# Altium schematic symbol library Cap.SchLib: 34 symbols (part 1 of 2)
Pins are listed as number, name and electrical type; pins without a type are passive.

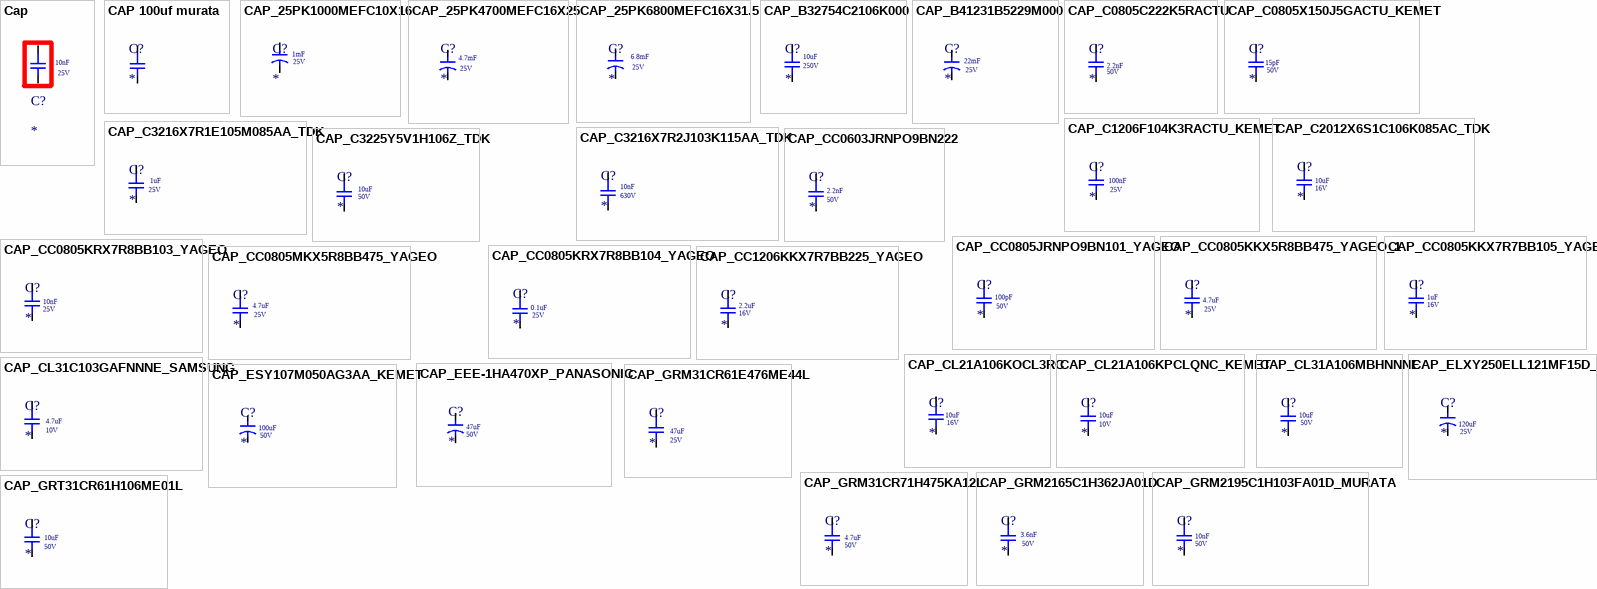
[diagram p0: symbols Cap to CAP_GRT31CR61H106ME01L]

## Cap
designator C?  Voltage Rating: 25V  Capacitance: 10nF
Cap Ceramic 0.01uF 25V C0G 2% SMD 1206 125C Embossed T/R; Manufacturer 1: Samsung; Manufacturer Part Number 1: CL31C103GAFNNNE; Supplier 1: Digi-Key; Stock 1: 0; RoHS: Yes; Mount: Surface Mount; Case/Package: 1206; Case Code (Metric): 3216; Case Code (Imperial): 1206; Min Operating Temperature: -55°C; Max Operating Temperature: 125°C; Tolerance: 2%; Dielectric: C0G; Package Quantity: 1; Packaging: Tape and Reel; Series: CL; Construction: Flat; Voltage Rating (DC): 25V; Length: 3.2mm; Width: 0.063inch; Height: 1.25mm; Depth: 1.6mm; Thickness: 0.055inch; Radiation Hardening: No; RoHS Compliant: Yes; ComponentLink1URL: https://datasheet.ciiva.com/25724/cl31c103gafnnne-25724433.pdf?src-supplier=Digi-Key; ComponentLink1Description: https://datasheet.ciiva.com/25724/cl31c103gafnnne-25724433.pdf?src-supplier=Digi-Key; ComponentLink2URL: https://datasheet.ciiva.com/26838/getdatasheetpartid-358463-26838999.pdf?src-supplier=Verical; ComponentLink2Description: https://datasheet.ciiva.com/26838/getdatasheetpartid-358463-26838999.pdf?src-supplier=Verical; Supplier Part Number 1: 1276-3210-2-ND
footprint cap smd 1206
pins: 22, 23

## CAP 100uf murata
designator C?
footprint Cap 100uf (0805)
pins: 22, 22

## CAP_25PK1000MEFC10X16
designator C?  Voltage: 25V  Capacitance: 1mF
CAP ALUM 1000UF 20% 25V RADIAL; Manufacturer 1: Rubycon; Manufacturer Part Number 1: 25PK1000MEFC10X16; Ripple Current: 870mA; Leakage Current: 3uA; Life (Hours): 2000Hour; Lead Diameter: 0.6mm; Supplier 1: Digi-Key; Stock 1: 1627; Pricing 1: 1=0,59000, 10=0,41900, 50=0,31700, 100=0,27600, 500=0,20448, 1000=0,17380, 2500=0,16358, 5000=0,15335 (USD); RoHS: Yes; Mount: Through Hole; Case/Package: Radial; Number of Pins: 2; Min Operating Temperature: -40°C; Max Operating Temperature: 85°C; Tolerance: 20%; Termination: Radial; Package Quantity: 1000; Voltage Rating: 25V; Packaging: Bulk; Voltage Rating (DC): 25V; Series: PK; Construction: RADIAL; Diameter: 10mm; Height: 16mm; Lead Pitch: 5mm; Height - Seated (Max): 0.689inch; Radiation Hardening: No; REACH SVHC: Unknown; RoHS Compliant: Yes; ComponentLink1URL: https://datasheet.ciiva.com/25614/0900766b810f8819-25614293.pdf?src-supplier=RSComponents; ComponentLink1Description: https://datasheet.ciiva.com/25614/0900766b810f8819-25614293.pdf?src-supplier=RSComponents; ComponentLink2URL: https://datasheet.ciiva.com/6328/e-pk-6328392.pdf?src-supplier=Digi-Key; ComponentLink2Description: https://datasheet.ciiva.com/6328/e-pk-6328392.pdf?src-supplier=Digi-Key; ComponentLink3URL: https://datasheet.ciiva.com/17514/e-pk-17514519.pdf?src-supplier=Avnet+Europe; ComponentLink3Description: https://datasheet.ciiva.com/17514/e-pk-17514519.pdf?src-supplier=Avnet+Europe; Supplier Part Number 1: 1189-1217-ND
footprint Cap 10x16
pins: 24, 25

## CAP_25PK4700MEFC16X25
designator C?  Voltage: 25V  Capacitance: 4.7mF
CAP, ALU ELEC, 4700UF, 25V, RAD; Product Range:PK Series; Capacitance:4700µF; Capacitance Tolerance:± 20%; Voltage Rating:25V; Diameter:16mm; Capacitor Terminals:Radial Leaded; Packaging:Each; ESR:-; Height:25mm; Lead Spacing:7.5mm; Lifetime @ Temperature:2000 hours @ 85°C; Operating Temperature Min:-40°C; Operating Temperature Max:85°C; Capacitance Tolerance ±:± 20%; Ripple Current AC:2120mA; Manufacturer 1: Rubycon; Manufacturer Part Number 1: 25PK4700MEFC16X25; Ripple Current: 2.12A; Leakage Current: 3uA; Lead Diameter: 0.8mm; Supplier 1: Digi-Key; Stock 1: 5906; Pricing 1: 1=1,45000, 10=1,14500, 50=0,99240, 100=0,85880, 500=0,64886, 1000=0,57253, 2500=0,53436, 5000=0,51527 (USD); RoHS: Yes; Mount: Through Hole; Case/Package: Radial; Number of Pins: 2; Min Operating Temperature: -40°C; Max Operating Temperature: 85°C; Tolerance: 20%; Termination: Radial; Voltage Rating: 25V; Ripple Current (AC): 2.12A; Package Quantity: 600; Packaging: Bulk; Life (Hours): 2000Hour; Voltage Rating (DC): 25V; Series: PK; Construction: RADIAL; Diameter: 16mm; Height: 25mm; Lead Pitch: 7.5mm; Height - Seated (Max): 1.063inch; Radiation Hardening: No; REACH SVHC: Unknown; RoHS Compliant: Yes; ComponentLink1URL: https://datasheet.ciiva.com/25614/0900766b810f8819-25614291.pdf?src-supplier=RSComponents; ComponentLink1Description: https://datasheet.ciiva.com/25614/0900766b810f8819-25614291.pdf?src-supplier=RSComponents; ComponentLink2URL: https://datasheet.ciiva.com/6312/e-pk-6312270.pdf?src-supplier=Digi-Key; ComponentLink2Description: https://datasheet.ciiva.com/6312/e-pk-6312270.pdf?src-supplier=Digi-Key; Supplier Part Number 1: 1189-1732-ND
footprint Cap 16x25
pins: 24, 25

## CAP_25PK6800MEFC16X31.5
designator C?  Voltage Rating: 25V  Capacitance: 6.8mF
CAP, ALU ELEC, 6800UF, 25V, RAD; Product Range:RUBYCON - PK Series; Capacitance:6800µF; Capacitance Tolerance:± 20%; Voltage Rating:25V; Diameter:16mm; ESR:-; Height:31.5mm; Capacitor Terminals:Radial Leaded; Lead Spacing:7.5mm; ;RoHS Compliant: Yes; Manufacturer Part Number 1: 25PK6800MEFC16X31.5; Ripple Current: 2.44A; Life (Hours): 2000Hour; Polarity: Polar; Supplier 1: Mouser; Manufacturer 1: Rubycon; Stock 1: 34; Pricing 1: 1=2,10000, 10=1,49000, 50=1,49000, 100=1,30000, 1000=0,86500, 10000=0,83400 (USD); RoHS: Yes; Mount: Through Hole; Case/Package: Radial; Number of Pins: 2; Min Operating Temperature: -40°C; Max Operating Temperature: 85°C; Tolerance: 20%; Termination: Radial; Ripple Current (AC): 2.44A; Package Quantity: 200; Packaging: Bulk; Voltage Rating (DC): 25V; Series: PK; Diameter: 16mm; Height: 31.5mm; Lead Pitch: 7.5mm; Height - Seated (Max): 1.299inch; Radiation Hardening: No; REACH SVHC: Unknown; ComponentLink1URL: https://datasheet.ciiva.com/11692/e-pk-11692263.pdf?src-supplier=Avnet; ComponentLink1Description: https://datasheet.ciiva.com/11692/e-pk-11692263.pdf?src-supplier=Avnet; ComponentLink2URL: https://datasheet.ciiva.com/17514/e-pk-17514538.pdf?src-supplier=Avnet+Europe; ComponentLink2Description: https://datasheet.ciiva.com/17514/e-pk-17514538.pdf?src-supplier=Avnet+Europe; Supplier Part Number 1: 232-25PK6800MEFC16X3
footprint Cap 16x31.5
pins: 24, 25

## CAP_B32754C2106K000
designator C?  Voltage Rating (AC): 250V  Capacitance: 10uF
Cap Film 10uF 500V PP 10% (31.5 X 22 X 36.5mm) Dipped Radial 27.5mm 105°C Bulk; Manufacturer 1: TDK EPCOS; Manufacturer Part Number 1: B32754C2106K000; ESR (Equivalent Series Resistance): 4.2mR; Supplier 1: Digi-Key; Stock 1: 0; Pricing 1: 1=5,13000, 10=4,62000, 50=4,00380, 100=3,49040, 500=2,87448, 1000=2,66916, 2500=2,61783 (USD); RoHS: No; Mount: Through Hole; Case/Package: Radial; Dielectric Material: PP; Min Operating Temperature: -40°C; Max Operating Temperature: 105°C; Packaging: Bulk; Tolerance: 10%; Voltage Rating (DC): 500V; Termination: PC Pins; RoHS Compliant: No; ComponentLink1URL: https://en.tdk.eu/inf/20/20/ds/MKP_B32754_758.pdf?src-supplier=Digi-Key; ComponentLink1Description: https://en.tdk.eu/inf/20/20/ds/MKP_B32754_758.pdf?src-supplier=Digi-Key; Supplier Part Number 1: 495-76101-ND
footprint Cap 22x36.5x31.5
pins: 22, 23

## CAP_B41231B5229M000
designator C?  Voltage Rating: 25V  Capacitance: 22mF
Cap Aluminum Lytic 22000uF 25V 20% (35 X 30mm) Snap-In 10mm 5510mA 2000h 85C Bulk; Manufacturer 1: TDK EPCOS; Manufacturer Part Number 1: B41231B5229M000; Dielectric Material: Aluminium; Ripple Current: 5.51A; Life (Hours): 2000Hour; Dissipation Factor: 0.4%; Test Frequency: 120Hz; Lead Diameter: 0.8mm; Supplier 1: Digi-Key; Stock 1: 189; Pricing 1: 1=3,89000, 10=3,13900, 50=2,69980, 100=2,44860, 500=1,82076, 1000=1,69519, 2500=1,63240, 5000=1,60101 (USD); RoHS: Yes; Mount: Through Hole; Case/Package: Aluminum; Number of Pins: 2; Contact Plating: Tin; Min Operating Temperature: -40°C; Max Operating Temperature: 85°C; Tolerance: 20%; Packaging: Bulk; Package Quantity: 60; Voltage Rating (DC): 25V; Termination: Snap in; Series: B41231; Diameter: 35mm; Length: 45mm; Height: 30mm; Lead Pitch: 10mm; REACH SVHC: No SVHC; ComponentLink1URL: http://www.farnell.com/datasheets/2130718.pdf?src-supplier=Farnell; ComponentLink1Description: http://www.farnell.com/datasheets/2130718.pdf?src-supplier=Farnell; ComponentLink2URL: http://components.arrow.com/part/dataview/0323_01877614?src-supplier=Arrow+Europe; ComponentLink2Description: http://components.arrow.com/part/dataview/0323_01877614?src-supplier=Arrow+Europe; ComponentLink3URL: http://www.epcos.com/inf/20/30/db/aec_2011/B41231.pdf?src-supplier=Avnet; ComponentLink3Description: http://www.epcos.com/inf/20/30/db/aec_2011/B41231.pdf?src-supplier=Avnet; ComponentLink4URL: http://www.farnell.com/datasheets/1884917.pdf?src-supplier=Element14; ComponentLink4Description: http://www.farnell.com/datasheets/1884917.pdf?src-supplier=Element14; ComponentLink5URL: http://en.tdk.eu/inf/20/30/db/aec_2015/B41252.pdf?src-supplier=Mouser; ComponentLink5Description: http://en.tdk.eu/inf/20/30/db/aec_2015/B41252.pdf?src-supplier=Mouser; Supplier Part Number 1: 495-6159-ND
pins: 24, 25

## CAP_C0805C222K5RACTU
designator C?  Voltage: 50V  Capacitance: 2.2nF
Cap Ceramic 0.0022uF 50V X7R 10% SMD 0805 125°C Paper T/R; Manufacturer 1: KEMET; Manufacturer Part Number 1: C0805C222K5RACTU; Dissipation Factor: 2.5%; Supplier 1: Digi-Key; Stock 1: 26149; Pricing 1: 1=0,10000, 10=0,05400, 50=0,02960, 100=0,02420, 500=0,01730, 1000=0,01360 (USD); RoHS: Yes; Mount: Surface Mount,PCB; Case/Package: 0805; Number of Pins: 2; Dielectric Material: Ceramic; Case Code (Imperial): 0805; Case Code (Metric): 2012; Min Operating Temperature: -55°C; Max Operating Temperature: 125°C; Tolerance: 10%; Packaging: Tape and Reel; Dielectric: X7R; Voltage Rating (DC): 50V; Package Quantity: 1; Series: C; Voltage Rating: 50V; Termination: SMD/SMT; Construction: Flat; Length: 2mm; Width: 0.049inch; Height: 0.78mm; Depth: 1.25mm; Lead Pitch: 0.75mm; Thickness: 0.035inch; Radiation Hardening: No; RoHS Compliant: Yes; REACH SVHC: No SVHC; ComponentLink1URL: https://datasheet.ciiva.com/28584/kem-c1002-x7r-smd-28584143.pdf?src-supplier=Element14; ComponentLink1Description: https://datasheet.ciiva.com/28584/kem-c1002-x7r-smd-28584143.pdf?src-supplier=Element14; ComponentLink2URL: https://datasheet.ciiva.com/28692/1851736-28692973.pdf?src-supplier=Element14; ComponentLink2Description: https://datasheet.ciiva.com/28692/1851736-28692973.pdf?src-supplier=Element14; Supplier Part Number 1: 399-1151-1-ND
footprint CAP smd 0805
pins: 22, 23

## CAP_C0805X150J5GACTU_KEMET
designator C?  Voltage Rating: 50V  Capacitance: 15pF
Multilayer Ceramic Capacitors MLCC - SMD/SMT 50volts 15pF 5% C0G; Manufacturer 1: KEMET; Manufacturer Part Number 1: C0805X150J5GACTU; Supplier 1: Digi-Key; Stock 1: 2348; Pricing 1: 1=0,33000, 10=0,23100, 50=0,16160, 100=0,13860, 500=0,10396, 1000=0,08778 (USD); RoHS: Yes; Mount: Surface Mount; Case/Package: 0805; Case Code (Imperial): 0805; Case Code (Metric): 2012; Dielectric Material: Ceramic; Min Operating Temperature: -55°C; Max Operating Temperature: 125°C; Package Quantity: 4000; Voltage Rating (DC): 50V; Tolerance: 5%; Packaging: Tape and Reel; Dielectric: C0G; Termination: SMD/SMT; Series: FT-CAP; Features: Soft Termination; Construction: Flat; Length: 0.083inch; Width: 1.25mm; Height: 0.78mm; Thickness: 0.035inch; Depth: 1.25mm; Radiation Hardening: No; RoHS Compliant: Yes; Lead Free: Lead Free; ComponentLink1URL: http://www.mouser.com/ds/2/212/KEM_C1062_C0G_FT-CAP_SMD-1101746.pdf?src-supplier=Mouser; ComponentLink1Description: http://www.mouser.com/ds/2/212/KEM_C1062_C0G_FT-CAP_SMD-1101746.pdf?src-supplier=Mouser; ComponentLink2URL: http://www.kemet.com/kemet/web/homepage/kechome.nsf/file/KEM_C1062_C0G_FT-CAP_SMD.pdf/$file/KEM_C1062_C0G_FT-CAP_SMD.pdf?src-supplier=Avnet; ComponentLink2Description: http://www.kemet.com/kemet/web/homepage/kechome.nsf/file/KEM_C1062_C0G_FT-CAP_SMD.pdf/$file/KEM_C1062_C0G_FT-CAP_SMD.pdf?src-supplier=Avnet; ComponentLink3URL: https://search.kemet.com/component-edge/download/specsheet/C0805X150J5GACTU.pdf?src-supplier=Digi-Key; ComponentLink3Description: https://search.kemet.com/component-edge/download/specsheet/C0805X150J5GACTU.pdf?src-supplier=Digi-Key; Supplier Part Number 1: 399-7428-1-ND
footprint CAP smd 0805
pins: 22, 23

## CAP_C1206F104K3RACTU_KEMET
designator C?  Voltage Rating: 25V  Capacitance: 100nF
KEMET - C1206F104K3RACTU - SMD Multilayer Ceramic Capacitor, FO-CAP, 0.1 µF, 25 V, 1206 [3216 Metric], ± 10%, X7R; Dissipation Factor: 3.5%; Supplier 1: Digi-Key; Manufacturer 1: KEMET; Manufacturer Part Number 1: C1206F104K3RACTU; Stock 1: 8493; Pricing 1: 1=0,52000, 10=0,35800, 50=0,25060, 100=0,21480, 500=0,16112, 1000=0,13606 (USD); RoHS: Yes; Mount: Surface Mount; Case/Package: 1206; Case Code (Imperial): 1206; Case Code (Metric): 3216; Dielectric Material: Ceramic; Min Operating Temperature: -55°C; Max Operating Temperature: 125°C; Dielectric: X7R; Tolerance: 10%; Packaging: Tape and Reel; Package Quantity: 1; Voltage Rating (DC): 25V; Termination: SMD/SMT; Series: FO-CAP; Length: 3.2mm; Width: 1.6mm; Height: 0.78mm; Thickness: 0.039inch; Depth: 1.6mm; REACH SVHC: No SVHC; RoHS Compliant: Yes; ComponentLink1URL: https://datasheet.ciiva.com/23928/1723859-23928960.pdf?src-supplier=Newark; ComponentLink1Description: https://datasheet.ciiva.com/23928/1723859-23928960.pdf?src-supplier=Newark; Supplier Part Number 1: 399-5615-1-ND
footprint cap smd 1206
pins: 22, 23

## CAP_C2012X6S1C106K085AC_TDK
designator C?  Voltage Rating: 16V  Capacitance: 10uF
Cap Ceramic 10uF 16V X6S 10% SMD 0805 105°C Punched Paper T/R; Manufacturer 1: TDK; Manufacturer Part Number 1: C2012X6S1C106K085AC; Supplier 1: Digi-Key; Stock 1: 6; Pricing 1: 1=0,30000, 10=0,20700, 50=0,13800, 100=0,11730, 500=0,08280, 1000=0,07245 (USD); RoHS: Yes; Mount: Surface Mount; Case/Package: 0805; Case Code (Metric): 2012; Case Code (Imperial): 0805; Dielectric Material: Ceramic; Min Operating Temperature: -55°C; Max Operating Temperature: 105°C; Package Quantity: 4000; Packaging: Tape and Reel; Tolerance: 10%; Voltage Rating (DC): 16V; Series: C; Length: 0.079inch; Width: 0.049inch; Thickness: 0.039inch; Lead Free: Lead Free; RoHS Compliant: Yes; ComponentLink1URL: https://datasheet.ciiva.com/14896/tdkmlcccaprange-14896965.pdf?src-supplier=Digi-Key; ComponentLink1Description: https://datasheet.ciiva.com/14896/tdkmlcccaprange-14896965.pdf?src-supplier=Digi-Key; Supplier Part Number 1: 445-14483-1-ND
footprint CAP smd 0805
pins: 22, 23

## CAP_C3216X7R1E105M085AA_TDK
designator C?  Voltage Rating: 25V  Capacitance: 1uF
CAP CER 1UF 25V X7R 1206; Manufacturer 1: TDK; Manufacturer Part Number 1: C3216X7R1E105M085AA; Dielectric Material: Ceramic; Tolerance: 20%; Supplier 1: Digi-Key; Stock 1: 5416; Pricing 1: 1=0,29000, 10=0,19900, 50=0,11960, 100=0,10090, 500=0,06906, 1000=0,06110 (USD); RoHS: Yes; Mount: Surface Mount; Case/Package: 1206; Number of Pins: 2; Case Code (Metric): 3216; Case Code (Imperial): 1206; Weight: 0.000571oz; Min Operating Temperature: -55°C; Max Operating Temperature: 125°C; Packaging: Tape and Reel; Package Quantity: 1; Voltage Rating (DC): 25V; Dielectric: X7R; Termination: SMD/SMT; Series: C; Resistor Type: Ceramic; Length: 3.2mm; Width: 0.063inch; Height: 1.6mm; Depth: 1.6mm; Thickness: 0.039inch; Lead Free: Lead Free; RoHS Compliant: Yes; REACH SVHC: No SVHC; ComponentLink1URL: https://datasheet.ciiva.com/24217/c3216x7r1e105m085aa-265271-24217517.pdf?src-supplier=Mouser; ComponentLink1Description: https://datasheet.ciiva.com/24217/c3216x7r1e105m085aa-265271-24217517.pdf?src-supplier=Mouser; ComponentLink2URL: https://datasheet.ciiva.com/6291/tdkmlcccaprange-6291789.pdf?src-supplier=Digi-Key; ComponentLink2Description: https://datasheet.ciiva.com/6291/tdkmlcccaprange-6291789.pdf?src-supplier=Digi-Key; ComponentLink3URL: https://datasheet.ciiva.com/6291/tdkmlcccaprange-6291798.pdf?src-supplier=Digi-Key; ComponentLink3Description: https://datasheet.ciiva.com/6291/tdkmlcccaprange-6291798.pdf?src-supplier=Digi-Key; ComponentLink4URL: https://datasheet.ciiva.com/16482/e412-c-16482537.pdf?src-supplier=Future+Electronics; ComponentLink4Description: https://datasheet.ciiva.com/16482/e412-c-16482537.pdf?src-supplier=Future+Electronics; Supplier Part Number 1: 445-4024-1-ND
footprint cap smd 1206
pins: 22, 23

## CAP_C3216X7R2J103K115AA_TDK
designator C?  Voltage: 630V  Capacitance: 10nF
TDK         C3216X7R2J103K115AA            SMD Multilayer Ceramic Capacitor, C Series, 0.01 F,  10%, X7R, 630 V, 1206 [3216 Metric]; Supplier 1: Digi-Key; Manufacturer 1: TDK; Manufacturer Part Number 1: C3216X7R2J103K115AA; Stock 1: 141007; Pricing 1: 1=0,27000, 10=0,18200, 50=0,12140, 100=0,10320, 500=0,07286, 1000=0,06376 (USD); RoHS: Yes; Mount: Surface Mount; Case/Package: 1206; Number of Pins: 2; Case Code (Metric): 3216; Case Code (Imperial): 1206; Weight: 0.000571oz; Min Operating Temperature: -55°C; Max Operating Temperature: 125°C; Tolerance: 10%; Voltage Rating: 630V; Package Quantity: 1; Packaging: Tape and Reel; Voltage Rating (DC): 630V; Dielectric: X7R; Termination: SMD/SMT; Series: C; Resistor Type: Ceramic; Length: 3.2mm; Width: 1.6mm; Height: 1.15mm; Depth: 1.6mm; Thickness: 0.051inch; REACH SVHC: No SVHC; Lead Free: Lead Free; RoHS Compliant: Yes; ComponentLink1URL: https://datasheet.ciiva.com/24218/c3216x7r2j103k115aa-265245-24218566.pdf?src-supplier=Mouser; ComponentLink1Description: https://datasheet.ciiva.com/24218/c3216x7r2j103k115aa-265245-24218566.pdf?src-supplier=Mouser; ComponentLink2URL: https://datasheet.ciiva.com/11788/0900766b80fc5cba-11788216.pdf?src-supplier=RSComponents; ComponentLink2Description: https://datasheet.ciiva.com/11788/0900766b80fc5cba-11788216.pdf?src-supplier=RSComponents; ComponentLink3URL: https://datasheet.ciiva.com/16201/e413-c-16201696.pdf?src-supplier=Future+Electronics; ComponentLink3Description: https://datasheet.ciiva.com/16201/e413-c-16201696.pdf?src-supplier=Future+Electronics; Supplier Part Number 1: 445-2291-1-ND
footprint cap smd 1206
pins: 22, 23

## CAP_C3225Y5V1H106Z_TDK
designator C?  Voltage Rating: 50V  Capacitance: 10uF
CAP CER 10UF 50V Y5V 1210; Manufacturer 1: TDK; Manufacturer Part Number 1: C3225Y5V1H106Z; Tolerance: 80%; Supplier 1: Arrow Electronics; Stock 1: 0; RoHS: Yes; Mount: Surface Mount; Case/Package: 1210; Number of Pins: 2; Case Code (Metric): 3225; Case Code (Imperial): 1210; Min Operating Temperature: -30°C; Max Operating Temperature: 85°C; Packaging: Tape and Reel; Package Quantity: 1; Voltage Rating (DC): 50V; Dielectric: Y5V; Termination: SMD/SMT; Resistor Type: Ceramic; Series: C; Construction: Flat; Length: 3.2mm; Width: 0.098inch; Height: 1.6mm; Thickness: 0.071inch; Depth: 2.5mm; Radiation Hardening: No; REACH SVHC: Unknown; Lead Free: Lead Free; RoHS Compliant: Yes; ComponentLink1URL: https://datasheet.ciiva.com/157/c-series-generalappl-b11-157864.pdf?src-supplier=Digi-Key; ComponentLink1Description: https://datasheet.ciiva.com/157/c-series-generalappl-b11-157864.pdf?src-supplier=Digi-Key; ComponentLink2URL: https://datasheet.ciiva.com/157/c-series-generalappl-b11-157865.pdf?src-supplier=Digi-Key; ComponentLink2Description: https://datasheet.ciiva.com/157/c-series-generalappl-b11-157865.pdf?src-supplier=Digi-Key; ComponentLink3URL: https://datasheet.ciiva.com/157/c-series-generalappl-b11-157866.pdf?src-supplier=Digi-Key; ComponentLink3Description: https://datasheet.ciiva.com/157/c-series-generalappl-b11-157866.pdf?src-supplier=Digi-Key; ComponentLink4URL: https://datasheet.ciiva.com/11588/general-b11-11588955.pdf?src-supplier=Avnet; ComponentLink4Description: https://datasheet.ciiva.com/11588/general-b11-11588955.pdf?src-supplier=Avnet; ComponentLink5URL: https://datasheet.ciiva.com/6145/1571323-6145050.pdf?src-supplier=Farnell; ComponentLink5Description: https://datasheet.ciiva.com/6145/1571323-6145050.pdf?src-supplier=Farnell; ComponentLink6URL: https://datasheet.ciiva.com/15919/general-b11-15919370.pdf?src-supplier=Onlinecomponents.com; ComponentLink6Description: https://datasheet.ciiva.com/15919/general-b11-15919370.pdf?src-supplier=Onlinecomponents.com; ComponentLink7URL: https://datasheet.ciiva.com/16467/e413-c-16467975.pdf?src-supplier=Future+Electronics; ComponentLink7Description: https://datasheet.ciiva.com/16467/e413-c-16467975.pdf?src-supplier=Future+Electronics; ComponentLink8URL: https://datasheet.ciiva.com/15192/getdatasheetpartid-92437-15192346.pdf?src-supplier=Verical; ComponentLink8Description: https://datasheet.ciiva.com/15192/getdatasheetpartid-92437-15192346.pdf?src-supplier=Verical; Supplier Part Number 1: C3225Y5V1H106Z
footprint cap smd 1210
pins: 22, 23

## CAP_CC0603JRNPO9BN222
designator C?  Voltage Rating: 50V  Capacitance: 2.2nF
Multilayer Ceramic Capacitors MLCC - SMD/SMT 2.2nF 50V NPO 5%; Manufacturer 1: Yageo; Manufacturer Part Number 1: CC0603JRNPO9BN222; Dielectric: C0G; Supplier 1: Newark; Stock 1: 28000; Pricing 1: 1=0,02000, 4000=0,01900, 8000=0,01800 (USD); RoHS: Yes; Mount: Surface Mount; Case/Package: 0603; Case Code (Imperial): 0603; Case Code (Metric): 1608; Weight: 7.1E-05oz; Min Operating Temperature: -55°C; Max Operating Temperature: 125°C; Voltage Rating (DC): 50V; Tolerance: 5%; Packaging: Tape and Reel; Termination: SMD/SMT; Resistor Type: Ceramic; Series: CC; Length: 0.063inch; Width: 0.031inch; Thickness: 0.035inch; Depth: 0.8mm; RoHS Compliant: Yes; ComponentLink1URL: https://datasheet.ciiva.com/13264/upy-gp-np0-16v-to-50v-8-3714-13264909.pdf?src-supplier=Mouser; ComponentLink1Description: https://datasheet.ciiva.com/13264/upy-gp-np0-16v-to-50v-8-3714-13264909.pdf?src-supplier=Mouser; Supplier Part Number 1: 69AH7228
footprint cap smd 0603
pins: 22, 23

## CAP_CC0805JRNPO9BN101_YAGEO
designator C?  Voltage: 50V  Capacitance: 100pF
0805 100 pF 50 V ±5 % Tolerance NP0 SMT Multilayer Ceramic Capacitor; Manufacturer 1: Yageo; Manufacturer Part Number 1: CC0805JRNPO9BN101; Tolerance: 5%; Dielectric: C0G; Temperature Coefficient: 30ppm/°C; Insulation Resistance: 100GR; Supplier 1: RSComponents; Stock 1: 2750; Pricing 1: 1000=0,01600, 2000=0,01400 (GBP); RoHS: Yes; Mount: Surface Mount; Case/Package: 0805; Number of Pins: 2; Case Code (Imperial): 0805; Case Code (Metric): 2012; Dielectric Material: Ceramic; Min Operating Temperature: -55°C; Max Operating Temperature: 125°C; Packaging: Tape and Reel; Voltage Rating: 50V; Package Quantity: 1; Voltage Rating (DC): 50V; Termination: SMD/SMT; Resistor Type: Ceramic; Series: CC; Length: 2mm; Width: 1.25mm; Height: 0.6mm; Depth: 1.25mm; Thickness: 0.024inch; Radiation Hardening: No; RoHS Compliant: Yes; REACH SVHC: No SVHC; Lead Free: Lead Free; ComponentLink1URL: https://datasheet.ciiva.com/5425/upy-gp-np0-16v-to-50v-8-217813-5425504.pdf?src-supplier=Mouser; ComponentLink1Description: https://datasheet.ciiva.com/5425/upy-gp-np0-16v-to-50v-8-217813-5425504.pdf?src-supplier=Mouser; ComponentLink2URL: https://datasheet.ciiva.com/144/mlccorderingcode-144855.pdf?src-supplier=Digi-Key; ComponentLink2Description: https://datasheet.ciiva.com/144/mlccorderingcode-144855.pdf?src-supplier=Digi-Key; ComponentLink3URL: https://datasheet.ciiva.com/144/mlccorderingcode-144854.pdf?src-supplier=Digi-Key; ComponentLink3Description: https://datasheet.ciiva.com/144/mlccorderingcode-144854.pdf?src-supplier=Digi-Key; ComponentLink4URL: https://datasheet.ciiva.com/144/mlccorderingcode-144856.pdf?src-supplier=Digi-Key; ComponentLink4Description: https://datasheet.ciiva.com/144/mlccorderingcode-144856.pdf?src-supplier=Digi-Key; ComponentLink5URL: https://datasheet.ciiva.com/8033/1443161-8033947.pdf?src-supplier=Element14; ComponentLink5Description: https://datasheet.ciiva.com/8033/1443161-8033947.pdf?src-supplier=Element14; ComponentLink6URL: https://datasheet.ciiva.com/8033/1443161-8033950.pdf?src-supplier=Element14; ComponentLink6Description: https://datasheet.ciiva.com/8033/1443161-8033950.pdf?src-supplier=Element14; ComponentLink7URL: https://datasheet.ciiva.com/11464/upy-gp-np0-16v-to-50v-8-11464745.pdf?src-supplier=Avnet; ComponentLink7Description: https://datasheet.ciiva.com/11464/upy-gp-np0-16v-to-50v-8-11464745.pdf?src-supplier=Avnet; ComponentLink8URL: https://datasheet.ciiva.com/26829/getdatasheetpartid-92514-26829509.pdf?src-supplier=Verical; ComponentLink8Description: https://datasheet.ciiva.com/26829/getdatasheetpartid-92514-26829509.pdf?src-supplier=Verical; Supplier Part Number 1: 1988026P
footprint CAP smd 0805
pins: 22, 23

## CAP_CC0805KKX5R8BB475_YAGEO_1
designator C?  Voltage Rating: 25V  Capacitance: 4.7uF
Multilayer Ceramic Capacitors MLCC - SMD/SMT 4.7uF 25V X5R 10%; Manufacturer 1: Yageo; Manufacturer Part Number 1: CC0805KKX5R8BB475; Supplier 1: Digi-Key; Stock 1: 37935; Pricing 1: 1=0,44000, 10=0,30800, 50=0,21560, 100=0,18480, 500=0,13858, 1000=0,11703 (USD); RoHS: Yes; Mount: Surface Mount; Case/Package: 0805; Case Code (Imperial): 0805; Case Code (Metric): 2012; Weight: 0.000194oz; Min Operating Temperature: -55°C; Max Operating Temperature: 85°C; Tolerance: 10%; Dielectric: X5R; Packaging: Tape and Reel; Voltage Rating (DC): 25V; Termination: SMD/SMT; Resistor Type: Ceramic; Series: CC; Construction: Flat; Length: 2mm; Width: 0.049inch; Height: 1.25mm; Thickness: 0.057inch; Depth: 1.25mm; Radiation Hardening: No; Lead Free: Lead Free; Halogen Free: Halogen Free; RoHS Compliant: Yes; ComponentLink1URL: https://datasheet.ciiva.com/17434/upy-gphc-x5r-4v-to-50v-12-17434759.pdf?src-supplier=Avnet+Europe; ComponentLink1Description: https://datasheet.ciiva.com/17434/upy-gphc-x5r-4v-to-50v-12-17434759.pdf?src-supplier=Avnet+Europe; ComponentLink2URL: https://datasheet.ciiva.com/26946/getdatasheetpartid-788588-26946123.pdf?src-supplier=Verical; ComponentLink2Description: https://datasheet.ciiva.com/26946/getdatasheetpartid-788588-26946123.pdf?src-supplier=Verical; Supplier Part Number 1: 311-1871-1-ND
footprint CAP smd 0805
pins: 22, 23

## CAP_CC0805KKX7R7BB105_YAGEO
designator C?  Voltage Rating: 16V  Capacitance: 1uF
YAGEO   CC0805KKX7R7BB105   CERAMIC CAPACITOR, 1UF, 16V, X7R, 10%, 0805; Supplier 1: Digi-Key; Manufacturer 1: Yageo; Manufacturer Part Number 1: CC0805KKX7R7BB105; Stock 1: 516899; Pricing 1: 1=0,16000, 10=0,11700, 50=0,06640, 100=0,05500, 500=0,03858, 1000=0,03194 (USD); RoHS: Yes; Mount: Surface Mount; Case/Package: 0805; Case Code (Metric): 2012; Case Code (Imperial): 0805; Min Operating Temperature: -55°C; Max Operating Temperature: 125°C; Tolerance: 10%; Dielectric: X7R; Series: CC; Packaging: Tape and Reel; Package Quantity: 1; Termination: SMD/SMT; Voltage Rating (DC): 16V; Length: 2mm; Width: 0.049inch; Depth: 1.25mm; Thickness: 0.049inch; Radiation Hardening: No; REACH SVHC: No SVHC; Lead Free: Lead Free; Halogen Free: Halogen Free; RoHS Compliant: Yes; ComponentLink1URL: https://datasheet.ciiva.com/144/mlccorderingcode-144902.pdf?src-supplier=Digi-Key; ComponentLink1Description: https://datasheet.ciiva.com/144/mlccorderingcode-144902.pdf?src-supplier=Digi-Key; ComponentLink2URL: https://datasheet.ciiva.com/144/mlccorderingcode-144903.pdf?src-supplier=Digi-Key; ComponentLink2Description: https://datasheet.ciiva.com/144/mlccorderingcode-144903.pdf?src-supplier=Digi-Key; ComponentLink3URL: https://datasheet.ciiva.com/144/mlccorderingcode-144904.pdf?src-supplier=Digi-Key; ComponentLink3Description: https://datasheet.ciiva.com/144/mlccorderingcode-144904.pdf?src-supplier=Digi-Key; ComponentLink4URL: https://datasheet.ciiva.com/11464/upy-gphc-x7r-6-3v-to-50v-8-11464750.pdf?src-supplier=Avnet; ComponentLink4Description: https://datasheet.ciiva.com/11464/upy-gphc-x7r-6-3v-to-50v-8-11464750.pdf?src-supplier=Avnet; ComponentLink5URL: https://datasheet.ciiva.com/13173/upy-gp-np0-16v-to-50v-8-3714-13173254.pdf?src-supplier=Mouser; ComponentLink5Description: https://datasheet.ciiva.com/13173/upy-gp-np0-16v-to-50v-8-3714-13173254.pdf?src-supplier=Mouser; ComponentLink6URL: https://datasheet.ciiva.com/7978/1489800-7978201.pdf?src-supplier=Element14; ComponentLink6Description: https://datasheet.ciiva.com/7978/1489800-7978201.pdf?src-supplier=Element14; ComponentLink7URL: https://datasheet.ciiva.com/28450/1489800-28450750.pdf?src-supplier=Element14; ComponentLink7Description: https://datasheet.ciiva.com/28450/1489800-28450750.pdf?src-supplier=Element14; ComponentLink8URL: https://datasheet.ciiva.com/15189/getdatasheetpartid-251802-15189206.pdf?src-supplier=Verical; ComponentLink8Description: https://datasheet.ciiva.com/15189/getdatasheetpartid-251802-15189206.pdf?src-supplier=Verical; Supplier Part Number 1: 311-1365-1-ND
footprint CAP smd 0805
pins: 22, 23

## CAP_CC0805KRX7R8BB103_YAGEO
designator C?  Voltage Rating: 25V  Capacitance: 10nF
Multilayer Ceramic Capacitor, CC Series, 0.01 - F, - 10%, X7R, 25 V, 0805 [2012 Metric]; Manufacturer 1: Yageo; Manufacturer Part Number 1: CC0805KRX7R8BB103; Insulation Resistance: 100GR; Supplier 1: Digi-Key; Stock 1: 8219; Pricing 1: 1=0,12000, 10=0,09100, 50=0,04960, 100=0,04060, 500=0,02898, 1000=0,02277 (USD); RoHS: Yes; Mount: Surface Mount; Case/Package: 0805; Case Code (Metric): 2012; Case Code (Imperial): 0805; Weight: 0.000194oz; Dielectric Material: Ceramic; Min Operating Temperature: -55°C; Max Operating Temperature: 125°C; Tolerance: 10%; Dielectric: X7R; Package Quantity: 4000; Packaging: Tape and Reel; Voltage Rating (DC): 25V; Termination: SMD/SMT; Resistor Type: Ceramic; Series: CC; Construction: Flat; Length: 2mm; Width: 0.049inch; Height: 0.6mm; Depth: 1.25mm; Thickness: 0.028inch; Radiation Hardening: No; REACH SVHC: Unknown; Lead Free: Lead Free; Halogen Free: Halogen Free; RoHS Compliant: Yes; ComponentLink1URL: https://datasheet.ciiva.com/8034/1489800-8034027.pdf?src-supplier=Element14; ComponentLink1Description: https://datasheet.ciiva.com/8034/1489800-8034027.pdf?src-supplier=Element14; ComponentLink2URL: https://datasheet.ciiva.com/8034/1489800-8034028.pdf?src-supplier=Element14; ComponentLink2Description: https://datasheet.ciiva.com/8034/1489800-8034028.pdf?src-supplier=Element14; ComponentLink3URL: https://datasheet.ciiva.com/17436/upy-gphc-x7r-6-3v-to-50v-8-17436633.pdf?src-supplier=Avnet+Europe; ComponentLink3Description: https://datasheet.ciiva.com/17436/upy-gphc-x7r-6-3v-to-50v-8-17436633.pdf?src-supplier=Avnet+Europe; Supplier Part Number 1: 311-3579-1-ND
footprint CAP smd 0805
pins: 22, 23

## CAP_CC0805KRX7R8BB104_YAGEO
designator C?  Voltage Rating: 25V  Capacitance: 0.1uF
CAPACITOR, 0805, 100NF, 25V, REEL 4000; Manufacturer 1: Yageo; Manufacturer Part Number 1: CC0805KRX7R8BB104; Material: Ceramic; Tolerance: 10%; Dielectric: X7R; Insulation Resistance: 100GR; Supplier 1: Digi-Key; Stock 1: 278639; Pricing 1: 1=0,12000, 10=0,08800, 50=0,04980, 100=0,04130, 500=0,02894, 1000=0,02396 (USD); RoHS: Yes; Mount: Surface Mount; Case/Package: 0805; Number of Pins: 2; Case Code (Metric): 2012; Case Code (Imperial): 0805; Min Operating Temperature: -55°C; Max Operating Temperature: 125°C; Package Quantity: 1; Packaging: Tape and Reel; Voltage Rating (DC): 25V; Termination: SMD/SMT; Resistor Type: Ceramic; Series: CC; Length: 2mm; Width: 0.049inch; Height: 0.85mm; Thickness: 0.033inch; Depth: 1.25mm; Radiation Hardening: No; REACH SVHC: No SVHC; Lead Free: Lead Free; Halogen Free: Halogen Free; RoHS Compliant: Yes; ComponentLink1URL: https://datasheet.ciiva.com/8034/70765-8034031.pdf?src-supplier=Element14; ComponentLink1Description: https://datasheet.ciiva.com/8034/70765-8034031.pdf?src-supplier=Element14; ComponentLink2URL: https://datasheet.ciiva.com/28450/1489800-28450789.pdf?src-supplier=Element14; ComponentLink2Description: https://datasheet.ciiva.com/28450/1489800-28450789.pdf?src-supplier=Element14; ComponentLink3URL: https://datasheet.ciiva.com/46430/1850775-46430166.pdf?src-supplier=Element14; ComponentLink3Description: https://datasheet.ciiva.com/46430/1850775-46430166.pdf?src-supplier=Element14; ComponentLink4URL: https://datasheet.ciiva.com/145/mlccorderingcode-145008.pdf?src-supplier=Digi-Key; ComponentLink4Description: https://datasheet.ciiva.com/145/mlccorderingcode-145008.pdf?src-supplier=Digi-Key; ComponentLink5URL: https://datasheet.ciiva.com/145/mlccorderingcode-145007.pdf?src-supplier=Digi-Key; ComponentLink5Description: https://datasheet.ciiva.com/145/mlccorderingcode-145007.pdf?src-supplier=Digi-Key; ComponentLink6URL: https://datasheet.ciiva.com/145/mlccorderingcode-145009.pdf?src-supplier=Digi-Key; ComponentLink6Description: https://datasheet.ciiva.com/145/mlccorderingcode-145009.pdf?src-supplier=Digi-Key; ComponentLink7URL: https://datasheet.ciiva.com/8034/1784427-8034030.pdf?src-supplier=Element14; ComponentLink7Description: https://datasheet.ciiva.com/8034/1784427-8034030.pdf?src-supplier=Element14; ComponentLink8URL: https://datasheet.ciiva.com/8034/1784427-8034029.pdf?src-supplier=Element14; ComponentLink8Description: https://datasheet.ciiva.com/8034/1784427-8034029.pdf?src-supplier=Element14; ComponentLink9URL: https://datasheet.ciiva.com/15189/getdatasheetpartid-330244-15189223.pdf?src-supplier=Verical; ComponentLink9Description: https://datasheet.ciiva.com/15189/getdatasheetpartid-330244-15189223.pdf?src-supplier=Verical; ComponentLink10URL: https://datasheet.ciiva.com/16625/upy-gphc-x7r-6-3v-to-50v-8-16625546.pdf?src-supplier=Avnet+Europe; ComponentLink10Description: https://datasheet.ciiva.com/16625/upy-gphc-x7r-6-3v-to-50v-8-16625546.pdf?src-supplier=Avnet+Europe; Supplier Part Number 1: 311-1141-1-ND
footprint CAP smd 0805
pins: 22, 23

## CAP_CC0805MKX5R8BB475_YAGEO
designator C?  Voltage Rating: 25V  Capacitance: 4.7uF
Multilayer Ceramic Capacitors MLCC - SMD/SMT 4.7M pF 25 Volts 20%; Manufacturer 1: Yageo; Manufacturer Part Number 1: CC0805MKX5R8BB475; Dielectric: X5R; Supplier 1: Digi-Key; Stock 1: 0; Pricing 1: 1=0,44000, 10=0,30500, 50=0,21320, 100=0,18280, 500=0,13712, 1000=0,11578 (USD); RoHS: Yes; Mount: Surface Mount; Case/Package: 0805; Case Code (Metric): 2012; Case Code (Imperial): 0805; Weight: 0.000194oz; Min Operating Temperature: -55°C; Max Operating Temperature: 85°C; Packaging: Tape and Reel; Tolerance: 20%; Termination: SMD/SMT; Voltage Rating (DC): 25V; Package Quantity: 3000; Length: 0.079inch; Width: 0.049inch; Thickness: 0.057inch; Lead Free: Lead Free; Halogen Free: Halogen Free; RoHS Compliant: Yes; ComponentLink1URL: http://www.mouser.com/ds/2/447/Yageo_UPY-GP_NP0_16V-to-50V_9-358835.pdf?src-supplier=Mouser; ComponentLink1Description: http://www.mouser.com/ds/2/447/Yageo_UPY-GP_NP0_16V-to-50V_9-358835.pdf?src-supplier=Mouser; ComponentLink2URL: http://www.yageo.com/documents/recent/UPY-GPHC_X5R_4V-to-50V_25.pdf?src-supplier=Digi-Key; ComponentLink2Description: http://www.yageo.com/documents/recent/UPY-GPHC_X5R_4V-to-50V_25.pdf?src-supplier=Digi-Key; Supplier Part Number 1: 311-1904-6-ND
footprint CAP smd 0805
pins: 22, 23

## CAP_CC1206KKX7R7BB225_YAGEO
designator C?  Voltage: 16V  Capacitance: 2.2uF
Cap Ceramic 2.2uF 16VDC X7R 10% SMD 1206 Blister T/R; Manufacturer 1: Yageo; Manufacturer Part Number 1: CC1206KKX7R7BB225; Supplier 1: Digi-Key; Stock 1: 1384; Pricing 1: 1=0,36000, 10=0,24600, 50=0,16380, 100=0,13930, 500=0,09834, 1000=0,08605 (USD); RoHS: Yes; Mount: Surface Mount; Case/Package: 1206; Number of Pins: 2; Case Code (Imperial): 1206; Case Code (Metric): 3216; Min Operating Temperature: -55°C; Max Operating Temperature: 125°C; Tolerance: 10%; Dielectric: X7R; Packaging: Tape and Reel; Termination: SMD/SMT; Voltage Rating (DC): 16V; Series: CC; Length: 3.2mm; Width: 0.063inch; Height: 1.15mm; Depth: 1.6mm; Thickness: 0.049inch; Radiation Hardening: No; Lead Free: Lead Free; Halogen Free: Halogen Free; RoHS Compliant: Yes; ComponentLink1URL: https://datasheet.ciiva.com/11788/0900766b80d84f1d-11788402.pdf?src-supplier=RSComponents; ComponentLink1Description: https://datasheet.ciiva.com/11788/0900766b80d84f1d-11788402.pdf?src-supplier=RSComponents; ComponentLink2URL: https://datasheet.ciiva.com/11466/upy-gphc-x7r-6-3v-to-50v-8-11466572.pdf?src-supplier=Avnet; ComponentLink2Description: https://datasheet.ciiva.com/11466/upy-gphc-x7r-6-3v-to-50v-8-11466572.pdf?src-supplier=Avnet; ComponentLink3URL: https://datasheet.ciiva.com/5425/upy-gphc-x7r-6-3v-to-50v-8-12304-5425499.pdf?src-supplier=Mouser; ComponentLink3Description: https://datasheet.ciiva.com/5425/upy-gphc-x7r-6-3v-to-50v-8-12304-5425499.pdf?src-supplier=Mouser; ComponentLink4URL: https://datasheet.ciiva.com/16624/upy-gphc-x7r-6-3v-to-50v-8-16624622.pdf?src-supplier=Avnet+Europe; ComponentLink4Description: https://datasheet.ciiva.com/16624/upy-gphc-x7r-6-3v-to-50v-8-16624622.pdf?src-supplier=Avnet+Europe; Supplier Part Number 1: 311-1957-1-ND; Voltage Rating: 16V
footprint cap smd 1206
pins: 22, 23

## CAP_CL21A106KOCL3RC
designator C?  Voltage Rating: 16V  Capacitance: 10uF
CAP CER 10UF 16V X5R 0805; Manufacturer 1: Samsung; Manufacturer Part Number 1: CL21A106KOCL3RC; Tolerance: 10%; Supplier 1: Digi-Key; Stock 1: 0; RoHS: Yes; Mount: Surface Mount; Case/Package: 0805; Case Code (Metric): 2012; Case Code (Imperial): 0805; Min Operating Temperature: -55°C; Max Operating Temperature: 85°C; Package Quantity: 1; Packaging: Tape and Reel; Series: CL; Length: 0.079inch; Width: 0.049inch; Thickness: 0.037inch; RoHS Compliant: Yes; ComponentLink1URL: https://datasheet.ciiva.com/25796/cl21a106kocl3rc-25796224.pdf?src-supplier=Digi-Key; ComponentLink1Description: https://datasheet.ciiva.com/25796/cl21a106kocl3rc-25796224.pdf?src-supplier=Digi-Key; Supplier Part Number 1: 1276-2398-2-ND
footprint CAP smd 0805 OK
pins: 22, 23

## CAP_CL21A106KPCLQNC_KEMET
designator C?  Voltage Rating: 10V  Capacitance: 10uF
SAMSUNG ELECTRO-MECHANICS - CL21A106KPCLQNC - SMD Multilayer Ceramic Capacitor, 10 µF, 10 V, 0805 [2012 Metric], ± 10%, X5R, CL Series; Supplier 1: Digi-Key; Manufacturer 1: Samsung; Manufacturer Part Number 1: CL21A106KPCLQNC; Stock 1: 1058; Pricing 1: 1=0,13000, 10=0,09500, 50=0,05380, 100=0,04460, 500=0,03128, 1000=0,02590 (USD); RoHS: Yes; Mount: Surface Mount; Case/Package: 0805; Case Code (Metric): 2012; Case Code (Imperial): 0805; Contact Plating: Tin; Min Operating Temperature: -55°C; Max Operating Temperature: 85°C; Tolerance: 10%; Dielectric: X5R; Packaging: Tape and Reel; Package Quantity: 1; Series: CL; Construction: Flat; Length: 2mm; Width: 0.049inch; Height: 0.85mm; Depth: 1.25mm; Thickness: 0.037inch; Radiation Hardening: No; RoHS Compliant: Yes; ComponentLink1URL: https://datasheet.ciiva.com/25730/cl21a106kpclqnc-25730594.pdf?src-supplier=Digi-Key; ComponentLink1Description: https://datasheet.ciiva.com/25730/cl21a106kpclqnc-25730594.pdf?src-supplier=Digi-Key; Supplier Part Number 1: 1276-2402-1-ND
footprint CAP smd 0805
pins: 22, 23

## CAP_CL31A106MBHNNNE
designator C?  Voltage Rating: 50V  Capacitance: 10uF
Cap Ceramic 10uF 50V X5R 20% Pad SMD 1206 85°C T/R; Manufacturer 1: Samsung; Manufacturer Part Number 1: CL31A106MBHNNNE; Supplier 1: Digi-Key; Stock 1: 1423422; Pricing 1: 1=0,31000, 10=0,21300, 50=0,14200, 100=0,12070, 500=0,08520, 1000=0,07455 (USD); RoHS: Yes; Mount: Surface Mount; Case/Package: 1206; Case Code (Metric): 3216; Case Code (Imperial): 1206; Min Operating Temperature: -55°C; Max Operating Temperature: 85°C; Packaging: Tape and Reel; Tolerance: 20%; Dielectric: X5R; Voltage Rating (DC): 50V; Length: 0.126inch; Width: 0.063inch; Thickness: 0.071inch; RoHS Compliant: Yes; ComponentLink1URL: http://www.samsungsem.com/kr/support/product-search/mlcc/CL31A106MBHNNNE.jsp?src-supplier=Digi-Key; ComponentLink1Description: http://www.samsungsem.com/kr/support/product-search/mlcc/CL31A106MBHNNNE.jsp?src-supplier=Digi-Key; Supplier Part Number 1: 1276-6736-1-ND
footprint cap smd 1206
pins: 22, 23

## CAP_CL31C103GAFNNNE_SAMSUNG
designator C?  Voltage Rating: 10V  Capacitance: 4.7uF
CAP CER 4.7UF 10V X5R 0402; Manufacturer 1: Samsung; Manufacturer Part Number 1: CL05A475KP5NRNC; Material: Ceramic; Tolerance: 10%; Supplier 1: Digi-Key; Stock 1: 0; Pricing 1: 1=0,32000, 10=0,22000, 50=0,14680, 100=0,12480, 500=0,08810, 1000=0,07709, 2500=0,07342, 5000=0,06791 (USD); RoHS: Yes; Mount: Surface Mount; Case/Package: 0402; Case Code (Metric): 1005; Case Code (Imperial): 0402; Min Operating Temperature: -55°C; Max Operating Temperature: 85°C; Dielectric: X5R; Packaging: Tape and Reel; Package Quantity: 1; Series: CL; Construction: Flat; Length: 1mm; Width: 0.02inch; Height: 0.5mm; Depth: 0.5mm; Thickness: 0.022inch; Radiation Hardening: No; RoHS Compliant: Yes; Lead Free: Lead Free; ComponentLink1URL: https://datasheet.ciiva.com/25724/cl05a475kp5nrnc-25724404.pdf?src-supplier=Digi-Key; ComponentLink1Description: https://datasheet.ciiva.com/25724/cl05a475kp5nrnc-25724404.pdf?src-supplier=Digi-Key; ComponentLink2URL: https://datasheet.ciiva.com/29198/458873-da-01-en-vs-kondensator-0402-29198304.pdf?src-supplier=Conrad; ComponentLink2Description: https://datasheet.ciiva.com/29198/458873-da-01-en-vs-kondensator-0402-29198304.pdf?src-supplier=Conrad; Supplier Part Number 1: 1276-1480-6-ND
footprint cap smd 1206
pins: 22, 23

## CAP_EEE-1HA470XP_PANASONIC
designator C?  Voltage: 50V  Capacitance: 47uF
CAP ALUM 47UF 20% 50V SMD; Manufacturer 1: Panasonic; Manufacturer Part Number 1: EEE-1HA470XP; Ripple Current: 105mA; Polarity: Polar; Life (Hours): 2000Hour; Leakage Current: 3uA; Supplier 1: Digi-Key; Stock 1: 0; Pricing 1: 1=0,52000, 10=0,36100, 50=0,25240, 100=0,21630 (USD); RoHS: Yes; Mount: Surface Mount,PCB; Case/Package: Radial; Number of Pins: 8; Contact Plating: Tin; Min Operating Temperature: -40°C; Max Operating Temperature: 85°C; Tolerance: 20%; Voltage Rating: 50V; Packaging: Tape and Reel; Ripple Current (AC): 105mA; Package Quantity: 900; Voltage Rating (DC): 50V; Termination: SMD/SMT; Series: S; Construction: Cylindrical; Diameter: 6.3mm; Length: 8mm; Height: 7.7mm; Height - Seated (Max): 0.303inch; Radiation Hardening: No; REACH SVHC: No SVHC; Lead Free: Lead Free; RoHS Compliant: Yes; ComponentLink1URL: https://datasheet.ciiva.com/31414/aba0000ce2-31414683.pdf?src-supplier=Farnell; ComponentLink1Description: https://datasheet.ciiva.com/31414/aba0000ce2-31414683.pdf?src-supplier=Farnell; ComponentLink2URL: https://datasheet.ciiva.com/46374/aba0000ce2-46374374.pdf?src-supplier=Element14; ComponentLink2Description: https://datasheet.ciiva.com/46374/aba0000ce2-46374374.pdf?src-supplier=Element14; ComponentLink3URL: https://datasheet.ciiva.com/24068/aba0000ce2-40801-24068168.pdf?src-supplier=Mouser; ComponentLink3Description: https://datasheet.ciiva.com/24068/aba0000ce2-40801-24068168.pdf?src-supplier=Mouser; ComponentLink4URL: https://datasheet.ciiva.com/2983/aba0000ce2-2983922.pdf?src-supplier=Avnet; ComponentLink4Description: https://datasheet.ciiva.com/2983/aba0000ce2-2983922.pdf?src-supplier=Avnet; ComponentLink5URL: https://datasheet.ciiva.com/16427/aba0000ce2-16427545.pdf?src-supplier=Future+Electronics; ComponentLink5Description: https://datasheet.ciiva.com/16427/aba0000ce2-16427545.pdf?src-supplier=Future+Electronics; ComponentLink6URL: https://datasheet.ciiva.com/15166/getdatasheetpartid-212318-15166389.pdf?src-supplier=Verical; ComponentLink6Description: https://datasheet.ciiva.com/15166/getdatasheetpartid-212318-15166389.pdf?src-supplier=Verical; ComponentLink7URL: https://datasheet.ciiva.com/30111/11aba0000ce2-30111849.pdf?src-supplier=Onlinecomponents.com; ComponentLink7Description: https://datasheet.ciiva.com/30111/11aba0000ce2-30111849.pdf?src-supplier=Onlinecomponents.com; ComponentLink8URL: https://datasheet.ciiva.com/17535/aba0000ce2-17535692.pdf?src-supplier=Avnet+Europe; ComponentLink8Description: https://datasheet.ciiva.com/17535/aba0000ce2-17535692.pdf?src-supplier=Avnet+Europe; Supplier Part Number 1: PCE3929CT-ND
footprint cap smd 6.6x7.7
pins: 24, 25

## CAP_ELXY250ELL121MF15D_UC
designator C?  Voltage Rating: 25V  Capacitance: 120uF
CAP ALUM 120UF 20% 25V RADIAL; Manufacturer 1: United Chemi-Con; Manufacturer Part Number 1: ELXY250ELL121MF15D; Dielectric Material: Aluminium; ESR (Equivalent Series Resistance): 250mR; Ripple Current: 390mA; Life (Hours): 2000Hour; Supplier 1: Digi-Key; Stock 1: 0; Pricing 1: 1=0,53000, 10=0,37200, 50=0,28160, 100=0,24530, 500=0,18170, 1000=0,15444, 2500=0,14536, 5000=0,13628 (USD); RoHS: Yes; Mount: Through Hole; Case/Package: Radial; Min Operating Temperature: -55°C; Max Operating Temperature: 105°C; Tolerance: 20%; Packaging: Bulk; Package Quantity: 2000; Impedance: 250mR; Termination: Radial; Voltage Rating (DC): 25V; Series: LXY; Diameter: 6.3mm; Length: 15mm; Height: 15mm; Lead Pitch: 2.5mm; Height - Seated (Max): 0.591inch; REACH SVHC: Unknown; Lead Free: Lead Free; RoHS Compliant: Yes; ComponentLink1URL: https://datasheet.ciiva.com/15948/4cat-db-al-cgieejppdfnamelxy-cgieejppdfnamelxy-15948293.pdf?src-supplier=Onlinecomponents.com; ComponentLink1Description: https://datasheet.ciiva.com/15948/4cat-db-al-cgieejppdfnamelxy-cgieejppdfnamelxy-15948293.pdf?src-supplier=Onlinecomponents.com; ComponentLink2URL: https://datasheet.ciiva.com/7910/1514050-7910234.pdf?src-supplier=Element14; ComponentLink2Description: https://datasheet.ciiva.com/7910/1514050-7910234.pdf?src-supplier=Element14; Supplier Part Number 1: 565-1791-ND
footprint cap alum 6.3x15
pins: 24, 25

## CAP_ESY107M050AG3AA_KEMET
designator C?  Voltage: 50V  Capacitance: 100uF
KEMET - ESY107M050AG3AA - Elektrolytkondensator, 100 µF, 50 V, Produktreihe ESY, ± 20%, Radial bedrahtet, 8 mm; Dielectric Material: Aluminium; Ripple Current: 511mA; Life (Hours): 3000Hour; Leakage Current: 50uA; Dissipation Factor: 0.1%; Lead/Base Style: Straight; Impedance: 74mR; Lead Diameter: 0.6mm; Lead Length: 20mm; Supplier 1: Digi-Key; Manufacturer 1: KEMET; Manufacturer Part Number 1: ESY107M050AG3AA; Stock 1: 587; Pricing 1: 1=0,44000, 10=0,30700, 50=0,21500, 100=0,18420, 500=0,13818, 1000=0,11668, 2500=0,11054, 5000=0,10440 (USD); RoHS: Yes; Mount: Through Hole,PCB; Case/Package: Radial; Min Operating Temperature: -40°C; Max Operating Temperature: 105°C; Tolerance: 20%; Termination: Radial; Packaging: Bulk; Voltage Rating (DC): 50V; Package Quantity: 6000; Voltage Rating: 50V; Series: ESY; ESR (Equivalent Series Resistance): 74mR; Diameter: 8mm; Length: 11mm; Height: 11mm; Lead Pitch: 3.5mm; Height - Seated (Max): 0.492inch; Radiation Hardening: No; RoHS Compliant: Yes; ComponentLink1URL: http://www.farnell.com/datasheets/2751412.pdf?src-supplier=Farnell; ComponentLink1Description: http://www.farnell.com/datasheets/2751412.pdf?src-supplier=Farnell; ComponentLink2URL: http://www.mouser.com/ds/2/212/KEM_A4007_ESY-1103537.pdf?src-supplier=Mouser; ComponentLink2Description: http://www.mouser.com/ds/2/212/KEM_A4007_ESY-1103537.pdf?src-supplier=Mouser; ComponentLink3URL: http://components.arrow.com/part/dataview/0323_06946698?src-supplier=Arrow+Europe; ComponentLink3Description: http://components.arrow.com/part/dataview/0323_06946698?src-supplier=Arrow+Europe; ComponentLink4URL: https://www.alliedelec.com/m/d/2f7883d23207e2a46fd2b27bea013c02.pdf?src-supplier=Allied+Electronics; ComponentLink4Description: https://www.alliedelec.com/m/d/2f7883d23207e2a46fd2b27bea013c02.pdf?src-supplier=Allied+Electronics; ComponentLink5URL: http://uk.rs-online.com/webdocs/13da/0900766b813da6ab.pdf?src-supplier=RSComponents; ComponentLink5Description: http://uk.rs-online.com/webdocs/13da/0900766b813da6ab.pdf?src-supplier=RSComponents; ComponentLink6URL: https://api.kemet.com/component-edge/download/specsheet/ESY107M050AG3AA.pdf?src-supplier=Digi-Key; ComponentLink6Description: https://api.kemet.com/component-edge/download/specsheet/ESY107M050AG3AA.pdf?src-supplier=Digi-Key; ComponentLink7URL: http://capacitoredge.kemet.com/capedge2/DataSheet?pn=ESY107M050AG3AA&src-supplier=Avnet; ComponentLink7Description: http://capacitoredge.kemet.com/capedge2/DataSheet?pn=ESY107M050AG3AA&src-supplier=Avnet; ComponentLink8URL: http://capacitoredge.kemet.com/capedge2/DataSheet/Datasheet-ESY107M050AG3AA.pdf?pn=ESY107M050AG3AA&src-supplier=Onlinecomponents.com; ComponentLink8Description: http://capacitoredge.kemet.com/capedge2/DataSheet/Datasheet-ESY107M050AG3AA.pdf?pn=ESY107M050AG3AA&src-supplier=Onlinecomponents.com; ComponentLink9URL: http://capacitoredge.kemet.com/capedge2/DataSheet?pn=ESY107M050AG3AA&src-supplier=Avnet+Europe; ComponentLink9Description: http://capacitoredge.kemet.com/capedge2/DataSheet?pn=ESY107M050AG3AA&src-supplier=Avnet+Europe; ComponentLink10URL: http://www.farnell.com/datasheets/2751412.pdf?src-supplier=Newark; ComponentLink10Description: http://www.farnell.com/datasheets/2751412.pdf?src-supplier=Newark; Supplier Part Number 1: 399-6119-ND
footprint cap elec 8x11.5
pins: 24, 25

## CAP_GRM31CR61E476ME44L
designator C?  Voltage Rating (DC): 25V  Capacitance: 47uF
CAP CER 47UF 25V X5R 1206; Manufacturer 1: Murata; Manufacturer Part Number 1: GRM31CR61E476ME44L; Tolerance: 20%; Supplier 1: Mouser; Stock 1: 253; Pricing 1: 1=1,08000, 10=0,84700, 50=0,84700, 100=0,60600, 1000=0,47400, 10000=0,47300 (USD); RoHS: Yes; Dielectric: X5R; Length: 3.2mm; Width: 1.6mm; Thickness: 1.6mm; ComponentLink1URL: https://search.murata.co.jp/Ceramy/image/img/A01X/partnumbering_e_01.pdf?src-supplier=Digi-Key; ComponentLink1Description: https://search.murata.co.jp/Ceramy/image/img/A01X/partnumbering_e_01.pdf?src-supplier=Digi-Key; Supplier Part Number 1: 81-GRM31CR61E476ME4L
footprint cap smd 1206
pins: 22, 23